# Altium footprint library EL.XXX.T01.PcbLib: 92 footprints (part 2 of 6)
Each footprint in its own frame and in the unit in brackets; x right, y up, seen from the top. Pads: shape width x height; smd on the part's side, far side on the other; paste and mask are expansions set on the pad; w line width, h text height; cw(c..) or ccw(c..) is an arc to the next point about the centre after c.
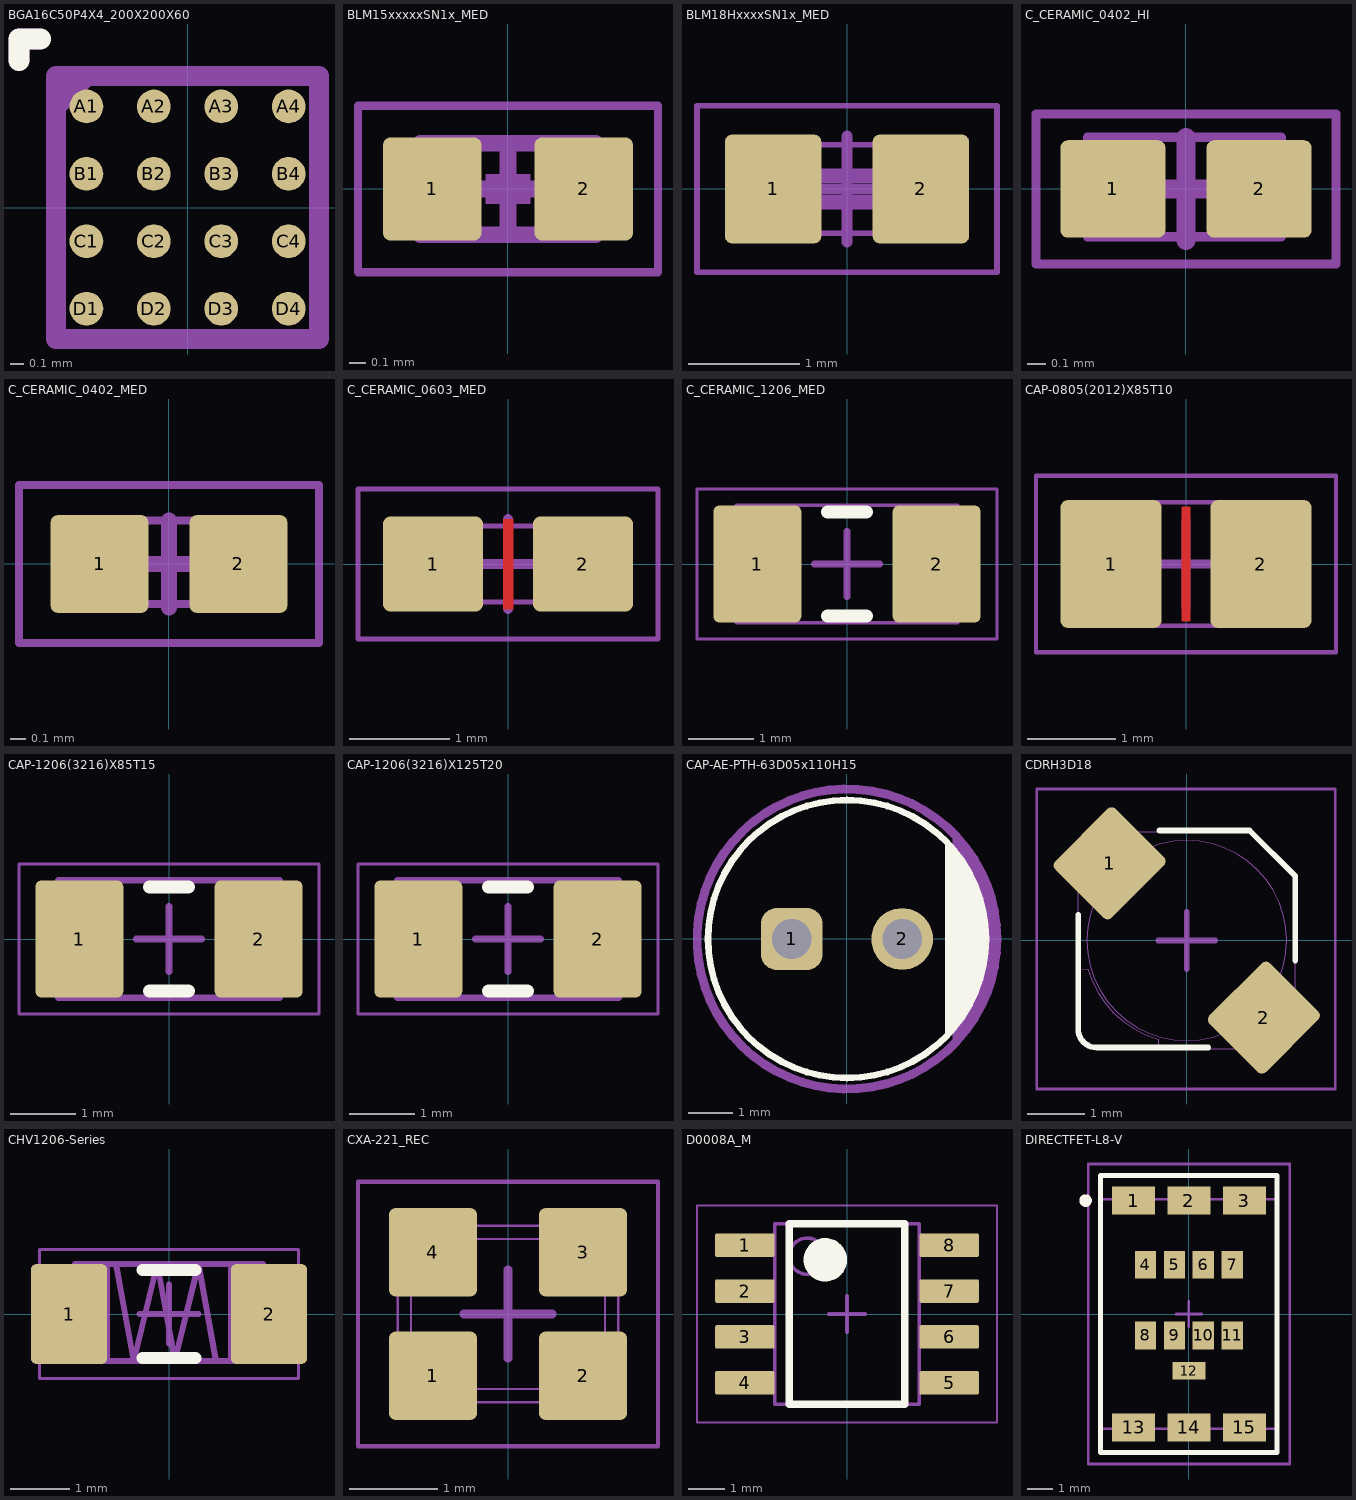
[diagram p1: the footprints below, top view; thin cyan lines are the x and y axes]

## BGA16C50P4X4_200X200X60 [mil]
pads (16):
  round 10 smd: A1(-30,30) A2(-10,30) A3(10,30) A4(30,30) B1(-30,10) B2(-10,10) B3(10,10) B4(30,10) C1(-30,-10) C2(-10,-10) C3(10,-10) C4(30,-10) D1(-30,-30) D2(-10,-30) D3(10,-30) D4(30,-30)
Top Overlay:
  lines w6.3: -50,43.7 -50,50 -43.7,50
Top Assembly:
  lines w6.3: -50,43.7 -50,50 -43.7,50
Mechanical 13:
  lines w6: -39,30 -30,39 ; -39,-39 39,-39 39,39 -39,39 -39,-39
3D body: height 15.75, standoff 0, extent -40,-40 40,40

## BLM15xxxxxSN1x_MED [mm]
pads (2):
  rrect15% 0.59x0.62 smd mask+0.05: 1(-0.455,0) 2(0.455,0)
Top Courtyard:
  lines w0.05: -0.9,-0.5 0.9,-0.5 0.9,0.5 -0.9,0.5 -0.9,-0.5
  lines w0.1: -0.275,0 0.275,0 ; 0,-0.275 0,0.275
Top Designator:
  text ".Designator" at -1.912,1.299 h0.5
Top Assembly:
  rectangle: -0.135,0.03 0.135,0.09
  rectangle: -0.135,-0.09 0.135,-0.03
  rectangle: -0.525,-0.275 -0.3,0.275
  region: 0.525,0.275 0.3,0.275 0.3,-0.275 0.525,-0.275
  lines w0.025: -0.18,0 0.18,0
  lines w0.1: -0.525,-0.275 -0.525,0.275 0.525,0.275 0.525,-0.275 -0.525,-0.275
Top Value:
  text ".Comment" at -1.901,0.678 h0.5
3D body "BLM15AX102SN1D_MED.step": height 0.55, standoff 0, extent -0.525,-0.275 0.525,0.275

## BLM18HxxxxSN1x_MED [mm]
pads (2):
  rrect15% 0.87x0.98 smd mask+0.05: 1(-0.665,0) 2(0.665,0)
Top Courtyard:
  lines w0.05: -1.35,-0.75 1.35,-0.75 1.35,0.75 -1.35,0.75 -1.35,-0.75
  lines w0.1: -0.475,0 0.475,0 ; 0,-0.475 0,0.475
Top Designator:
  text ".Designator" at -1.75,1.675 h0.5
Top Assembly:
  rectangle: -0.9,-0.4 -0.5,0.4
  region: 0.9,0.4 0.5,0.4 0.5,-0.4 0.9,-0.4
  rectangle: -0.25,0.055 0.25,0.185
  rectangle: -0.25,-0.185 0.25,-0.055
  lines w0.05: -0.38,0 0.38,0 ; -0.9,-0.4 -0.9,0.4 0.9,0.4 0.9,-0.4 -0.9,-0.4
Top Value:
  text ".Comment" at -1.725,1.1 h0.5
3D body "BLM18HE152SN1D_MED.step": height 0.95, standoff 0, extent -0.875,-0.475 0.875,0.475

## C_CERAMIC_0402_HI [mm]
pads (2):
  rrect15% 0.56x0.52 smd mask+0.05: 1(-0.39,0) 2(0.39,0)
Top Courtyard:
  lines w0.05: -0.8,-0.4 -0.8,0.4 0.8,0.4 0.8,-0.4 -0.8,-0.4
  lines w0.1: -0.275,0 0.275,0 ; 0,-0.275 0,0.275
Top Designator:
  text ".Designator" at -2.25,1.3 h0.5
Top Assembly:
  rectangle: -0.525,-0.254 -0.254,0.275
  region: 0.525,0.275 0.254,0.275 0.254,-0.254 0.525,-0.254
  lines w0.05: -0.525,-0.254 -0.525,0.275 0.508,0.275 0.508,-0.254 -0.525,-0.254
Top Value:
  text ".Comment" at -2.25,0.7 h0.5
3D body "C0402.STEP": height 0.55, standoff 0, extent -0.525,-0.275 0.525,0.275

## C_CERAMIC_0402_MED [mm]
pads (2):
  rrect15% 0.62x0.62 smd mask+0.05: 1(-0.44,0) 2(0.44,0)
Top Courtyard:
  lines w0.05: -0.95,-0.5 -0.95,0.5 0.95,0.5 0.95,-0.5 -0.95,-0.5
  lines w0.1: -0.275,0 0.275,0 ; 0,-0.275 0,0.275
Top Designator:
  text ".Designator" at -2,1.3 h0.5
Top Assembly:
  region: 0.525,0.275 0.254,0.275 0.254,-0.254 0.525,-0.254
  rectangle: -0.525,-0.254 -0.254,0.275
  lines w0.05: -0.525,-0.254 0.508,-0.254 0.508,0.275 -0.525,0.275 -0.525,-0.254
Top Value:
  text ".Comment" at -2,0.6 h0.5
3D body "C0402.STEP": height 0.55, standoff 0, extent -0.525,-0.275 0.525,0.275

## C_CERAMIC_0603_MED [mm]
pads (2):
  rrect15% 1x0.95 smd mask+0.05: 1(-0.75,0) 2(0.75,0)
Top Layer:
  pour cut-out: -0.05,0.45 0.05,0.45 0.05,-0.45 -0.05,-0.45
Top Courtyard:
  lines w0.05: -1.5,-0.75 1.5,-0.75 1.5,0.75 -1.5,0.75 -1.5,-0.75
  lines w0.1: -0.45,0 0.45,0 ; 0,-0.45 0,0.45
Top Designator:
  text ".Designator" at -1.8,1.6 h0.5
Top Assembly:
  region: 0.906,0.381 0.635,0.381 0.635,-0.381 0.906,-0.381
  rectangle: -0.906,-0.381 -0.635,0.381
  lines w0.05: -0.889,-0.381 0.889,-0.381 0.889,0.381 -0.889,0.381 -0.889,-0.381
Top Value:
  text ".Comment" at -1.8,1 h0.5
3D body "C0603.STEP": height 0.9, standoff 0, extent -0.9,-0.5 0.9,0.5

## C_CERAMIC_1206_MED [mm]
pads (2):
  rrect15% 1.35x1.8 smd mask+0.05: 1(-1.375,0) 2(1.375,0)
Top Overlay:
  lines w0.2: -0.3,-0.8 0.3,-0.8 ; -0.3,0.8 0.3,0.8
Top Courtyard:
  lines w0.05: -2.3,-1.15 -2.3,1.15 2.3,1.15 2.3,-1.15 -2.3,-1.15
  lines w0.1: -0.5,0 0.5,0 ; 0,-0.5 0,0.5
Top Designator:
  text ".Designator" at -1.9,2 h0.5
Top Assembly:
  rectangle: -1.7,-0.9 -1.2,0.9
  region: 1.7,0.9 1.2,0.9 1.2,-0.9 1.7,-0.9
  lines w0.05: -1.7,-0.9 -1.7,0.9 1.7,0.9 1.7,-0.9 -1.7,-0.9
Top Value:
  text ".Comment" at -1.9,1.4 h0.5
3D body "C1206.STEP": height 1.8, standoff 0, extent -1.7,-0.9 1.7,0.9

## CAP-0805(2012)X85T10 [mm]
pads (2):
  rrect15% 1.15x1.45 smd mask+0.05: 1(-0.85,0) 2(0.85,0)
Top Layer:
  pour cut-out: -0.05,0.651 0.05,0.651 0.05,-0.649 -0.05,-0.649
Top Courtyard:
  lines w0.05: -1.7,-1 1.7,-1 1.7,1 -1.7,1 -1.7,-1
  lines w0.1: -0.5,0 0.5,0 ; 0,-0.5 0,0.5
Top Designator:
  text ".Designator" at -1.7,1.75 h0.5
Top Assembly:
  rectangle: -1.106,-0.7 -0.7,0.7
  region: 1.106,0.7 0.7,0.7 0.7,-0.7 1.106,-0.7
  lines w0.05: -1.1,-0.7 -1.1,0.7 1.1,0.7 1.1,-0.7 -1.1,-0.7
Top Value:
  text ".Comment" at -1.7,1.15 h0.5
3D body "C0805(2012)085T10.STEP": height 0.95, standoff 0, extent -1.1,-0.725 1.1,0.725

## CAP-1206(3216)X85T15 [mm]
pads (2):
  rrect15% 1.35x1.8 smd mask+0.05: 1(-1.375,0) 2(1.375,0)
Top Overlay:
  lines w0.2: -0.3,-0.8 0.3,-0.8 ; -0.3,0.8 0.3,0.8
Top Courtyard:
  lines w0.05: -2.3,-1.15 -2.3,1.15 2.3,1.15 2.3,-1.15 -2.3,-1.15
  lines w0.1: -0.5,0 0.5,0 ; 0,-0.5 0,0.5
Top Designator:
  text ".Designator" at -1.7,1.9 h0.5
Top Assembly:
  region: 1.7,0.9 1.2,0.9 1.2,-0.9 1.7,-0.9
  rectangle: -1.7,-0.9 -1.2,0.9
  lines w0.1: -1.7,-0.9 -1.7,0.9 1.7,0.9 1.7,-0.9 -1.7,-0.9
Top Value:
  text ".Comment" at -1.7,1.3 h0.5
3D body "C1206(3216)085T15.STEP": height 1, standoff 0, extent -1.7,-0.9 1.7,0.9

## CAP-1206(3216)X125T20 [mm]
pads (2):
  rrect15% 1.35x1.8 smd mask+0.05: 1(-1.375,0) 2(1.375,0)
Top Overlay:
  lines w0.2: -0.3,-0.8 0.3,-0.8 ; -0.3,0.8 0.3,0.8
Top Courtyard:
  lines w0.05: -2.3,-1.15 2.3,-1.15 2.3,1.15 -2.3,1.15 -2.3,-1.15
  lines w0.1: -0.5,0 0.5,0 ; 0,-0.5 0,0.5
Top Designator:
  text ".Designator" at -1.8,1.95 h0.5
Top Assembly:
  rectangle: -1.7,-0.9 -1.2,0.9
  region: 1.7,0.9 1.2,0.9 1.2,-0.9 1.7,-0.9
  lines w0.1: -1.7,-0.9 1.7,-0.9 1.7,0.9 -1.7,0.9 -1.7,-0.9
Top Value:
  text ".Comment" at -1.8,1.35 h0.5
3D body "CAPC3216X14.step": height 1.45, standoff 0, extent -1.7,-0.9 1.7,0.9

## CAP-AE-PTH-63D05x110H15 [mm]
pads (2):
  rrect50% 1.4x1.4 hole 0.9: 1(-1.25,0)
  round 1.4 hole 0.9: 2(1.25,0)
Top Overlay:
  circle w0.15: c0,0 r3.15
  region: 2.227,-2.25 2.227,2.227 2.373,2.08 2.624,1.75 2.83,1.391 2.988,1.007 3.094,0.607 3.148,0.196 3.148,-0.219 3.094,-0.629 2.988,-1.03 2.83,-1.413 2.624,-1.773 2.373,-2.103
Top Designator:
  text ".Designator" at -1.9,4.7 h0.5
Top Assembly:
  circle w0.5: c1.25,-0.021 r0.3
  circle w0.2: c0,0 r3.4
  rectangle: -1.75,-0.5 -0.75,0.5
  region: 2.4,-2.35 2.4,2.35 2.553,2.195 2.816,1.849 3.033,1.472 3.198,1.069 3.31,0.649 3.366,0.218 3.366,-0.218 3.31,-0.649 3.198,-1.069 3.033,-1.472 2.816,-1.849 2.553,-2.195
  text "+" at -1.5,0.954 h0.9
Top Value:
  text ".Comment" at -1.9,4.05 h0.5
3D body "C_6.8x12.5 v1.step": height 12.5, standoff -1.5, extent -3.4,-3.4 3.4,3.4

## CDRH3D18 [mm]
pads (2):
  rrect15% 1.4x1.5 smd rot 135 mask+0.05: 1(-1.35,1.35) 2(1.35,-1.35)
Top Overlay:
  lines w0.1: -1.9,0.45 -1.9,-1.55 ccw(c-1.575,-1.55) -1.575,-1.875 0.375,-1.875 ; -0.475,1.925 1.1,1.925 1.9,1.125 1.9,-0.35
Top Courtyard:
  lines w0.05: -2.625,-2.6 2.6,-2.6 2.6,2.65 -2.625,2.65 -2.625,-2.6
  lines w0.1: -0.5,0 0.5,0 ; 0,-0.5 0,0.5
Top Designator:
  text ".Designator" at -1.25,3.5 h0.5
Top Assembly:
  circle w0.01: c0,0 r1.75
  lines w0.01: -1.9,-0.5 -1.729,-0.501 ccw(c0,0) -0.501,-1.729 -0.5,-1.9 ; -1.8,0.9 -0.9,1.8 ; -1.737,0.838 -0.838,1.737 ; -1.65,0.65 -1.9,0.9 ; -1.625,0.725 -1.85,0.95 ; -0.725,1.625 -0.95,1.85 ; -0.65,1.65 -0.9,1.9 ; 0.65,-1.65 0.9,-1.9 ; 0.725,-1.625 0.95,-1.85 ; 0.838,-1.737 1.738,-0.837 ; 0.9,-1.8 1.8,-0.9 ; 1.625,-0.725 1.85,-0.95 ; 1.65,-0.65 1.9,-0.9 ; -1.9,0.9 -1.9,-1.575 ccw(c-1.575,-1.575) -1.575,-1.9 0.9,-1.9 ; -1.9,0.9 -1.85,0.95 ; -1.85,0.95 -1.85,1.023 cw(c-1.423,1.023) -1.725,1.325 -1.325,1.725 cw(c-1.023,1.423) -1.023,1.85 -0.95,1.85 ; -0.95,1.85 -0.9,1.9 ; -0.9,1.9 1.1,1.9 1.9,1.1 1.9,-0.9 ; 0.9,-1.9 0.95,-1.85 ; 0.95,-1.85 1.023,-1.85 ccw(c1.023,-1.423) 1.325,-1.725 1.725,-1.325 ccw(c1.423,-1.023) 1.85,-1.023 1.85,-0.95 ; 1.85,-0.95 1.9,-0.9
Top Value:
  text ".Comment" at -1.275,2.85 h0.5
3D body "cdrh3d18.STEP": height 2, standoff 0, extent -2.02,-2.02 2.02,2.02

## CHV1206-Series [mm]
pads (2):
  rrect15% 1.3x1.7 smd mask+0.05: 1(-1.7,0) 2(1.7,0)
Top Overlay:
  lines w0.2: -0.45,-0.75 0.45,-0.75 ; -0.45,0.75 0.45,0.75
Top Courtyard:
  lines w0.05: -2.2,-1.1 2.2,-1.1 2.2,1.1 -2.2,1.1 -2.2,-1.1
  lines w0.1: -0.5,0 0.5,0 ; 0,-0.5 0,0.5
Top Designator:
  text ".Designator" at -1.8,1.95 h0.5
Top Assembly:
  rectangle: -1.6,-0.8 -1,0.85
  region: 1.6,0.85 1,0.85 1,-0.8 1.6,-0.8
  lines w0.1: -0.9,0.85 -0.6,-0.8 -0.2,0.85 0.1,-0.8 0.5,0.85 0.8,-0.8 ; -1.6,-0.8 -1.6,0.85 1.6,0.85 1.6,-0.8 -1.6,-0.8
Top Value:
  text ".Comment" at -1.8,1.3 h0.5
3D body "RC1206.STEP": height 0.65, standoff 0, extent -1.6,-0.85 1.6,0.85

## CXA-221_REC [mm]
pads (4):
  rrect15% 1x1 smd mask+0.05: 1(-0.85,-0.7) 2(0.85,-0.7) 3(0.85,0.7) 4(-0.85,0.7)
Top Courtyard:
  lines w0.05: -1.7,-1.5 -1.7,1.5 1.7,1.5 1.7,-1.5 -1.7,-1.5
  lines w0.1: -0.5,0 0.5,0 ; 0,-0.5 0,0.5
Top Designator:
  text ".Designator" at -0.423,-0.253 h0.5
Top Assembly:
  circle w0.3: c-0.8,-0.5 r0.05
  lines w0.025: -1.25,-0.85 cw(c-1.25,-1) -1.1,-1 1.1,-1 cw(c1.25,-1) 1.25,-0.85 1.25,0.85 cw(c1.25,1) 1.1,1 -1.1,1 cw(c-1.25,1) -1.25,0.85 -1.25,-0.85 ; -1.1,-0.7 ccw(c-0.95,-0.7) -0.95,-0.85 0.95,-0.85 ccw(c0.95,-0.7) 1.1,-0.7 1.1,0.7 ccw(c0.95,0.7) 0.95,0.85 -0.95,0.85 ccw(c-0.95,0.7) -1.1,0.7 -1.1,-0.7
Top Value:
  text ".Comment" at -3.423,-1.753 h0.5
3D body "CXA-221_REC.STEP": height 0.65, standoff -0.01, extent -1.325,-1.075 1.325,1.075

## D0008A_M [mm]
pads (8):
  rrect15% 1.65x0.65 smd: 1(-2.825,1.905) 2(-2.825,0.635) 3(-2.825,-0.635) 4(-2.825,-1.905) 5(2.825,-1.905) 6(2.825,-0.635) 7(2.825,0.635) 8(2.825,1.905)
Top Overlay:
  circle w0.6: c-0.6,1.5 r0.3
  lines w0.2: -1.6,-2.5 1.6,-2.5 1.6,2.5 -1.6,2.5 -1.6,-2.5
Mechanical 1:
  text ".Designator" at -1.397,-0.254 h0.6
Mechanical 13:
  circle w0.1: c-1.1,1.6 r0.5
  lines w0.1: -2,-2.5 2,-2.5 2,2.5 -2,2.5 -2,-2.5
Mechanical 15:
  lines w0.05: -4.15,-3 4.15,-3 4.15,3 -4.15,3 -4.15,-3
  lines w0.1: -0.5,0 0.5,0 ; 0,-0.5 0,0.5
3D body "SOIC-8akaD0008AakaM08A.stp": height 1.63, standoff 0, extent -3,-2.45 3,2.45

## DIRECTFET-L8-V [mm]
pads (15):
  rect 1.7x1.1 smd paste-0.1 mask+0: 1(-2.2,4.5) 2(0,4.5) 3(2.2,4.5) 13(-2.2,-4.5) 14(0,-4.5) 15(2.2,-4.5)
  rect 0.85x1.1 smd paste-0.6 mask+0: 4(-1.725,1.95) 5(-0.575,1.95) 6(0.575,1.95) 7(1.725,1.95) 8(-1.725,-0.85) 9(-0.575,-0.85) 10(0.575,-0.85) 11(1.725,-0.85)
  rect 1.3x0.7 smd paste-0.4 mask+0: 12(0,-2.25)
Top Overlay:
  circle w0.25: c-4.1,4.5 r0.125
  lines w0.2: -3.5,-5.5 -3.5,5.5 3.5,5.5 3.5,-5.5 -3.5,-5.5
Top Paste:
  region: 0.55,-2.562 0.55,-1.937 -0.55,-1.937 -0.55,-2.562
  region: -2.075,-1.35 -1.375,-1.35 -1.375,-0.35 -2.075,-0.35
  region: -0.925,-1.35 -0.225,-1.35 -0.225,-0.35 -0.925,-0.35
  region: 0.225,-1.35 0.925,-1.35 0.925,-0.35 0.225,-0.35
  region: 1.375,-1.35 2.075,-1.35 2.075,-0.35 1.375,-0.35
  region: -2.075,1.45 -1.375,1.45 -1.375,2.45 -2.075,2.45
  region: -0.925,1.45 -0.225,1.45 -0.225,2.45 -0.925,2.45
  region: 0.225,1.45 0.925,1.45 0.925,2.45 0.225,2.45
  region: 1.375,1.45 2.075,1.45 2.075,2.45 1.375,2.45
Top Designator:
  text ".DESIGNATOR" at 4.826,-3.683 h1.2
  text ".Comment" at 5.969,-3.683 h1.52
Mechanical 13:
  lines w0.1: -3.487,-4.55 3.487,-4.55 3.487,4.55 -3.487,4.55 -3.487,-4.55
Mechanical 15:
  lines w0.1: -0.5,0 0.5,0 ; 0,-0.5 0,0.5 ; -3.99,-5.95 -3.99,5.95 3.99,5.95 3.99,-5.95 -3.99,-5.95
3D body "WDSON-2-X4.stp": height 0.75, standoff 0, extent -3.488,-4.55 3.487,4.55